# Altium schematic symbol library arduino.SchLib: 2 symbols
Pins are listed as number, name and electrical type; pins without a type are passive.

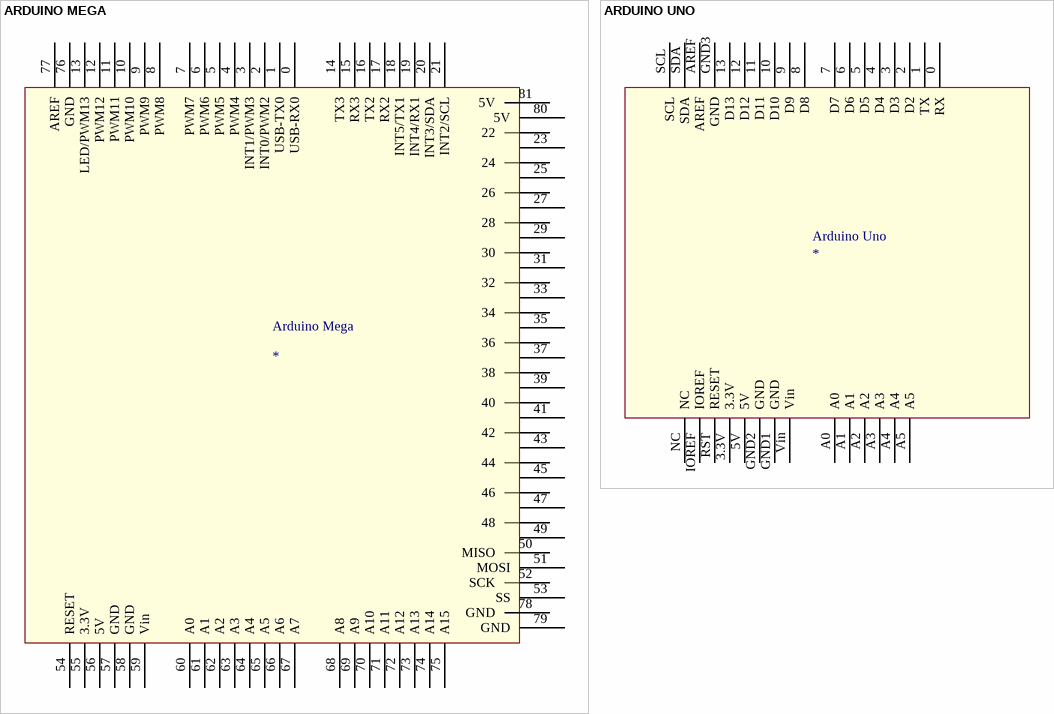
[diagram p0: symbols ARDUINO MEGA to ARDUINO UNO]

## ARDUINO MEGA
designator Arduino Mega
footprint ARDUINO MEGA (Arduino Mega 2560)
pins: 0 USB-RX0, 1 USB-TX0, 2 INT0/PWM2, 3 INT1/PWM3, 4 PWM4, 5 PWM5, 6 PWM6, 7 PWM7, 8 PWM8, 9 PWM9, 10 PWM10, 11 PWM11, 12 PWM12, 13 LED/PWM13, 14 TX3, 15 RX3, 16 TX2, 17 RX2, 18 INT5/TX1, 19 INT4/RX1, 20 INT3/SDA, 21 INT2/SCL, 22, 23, 24, 25, 26, 27, 28, 29, 30, 31, 32, 33, 34, 35, 36, 37, 38, 39, 40, 41, 42, 43, 44, 45, 46, 47, 48, 49, 50 MISO, 51 MOSI, 52 SCK, 53 SS, 54 RESET, 55 3.3V, 56 5V, 57 GND, 58 GND, 59 Vin, 60 A0, 61 A1, 62 A2, 63 A3, 64 A4, 65 A5, 66 A6, 67 A7, 68 A8, 69 A9, 70 A10, 71 A11, 72 A12, 73 A13, 74 A14, 75 A15, 76 GND, 77 AREF, 78 GND, 79 GND, 80 5V, 81 5V

## ARDUINO UNO
designator Arduino Uno
footprint ARDUINO UNO
footprint Arduino Uno
pins: 0 RX, 1 TX, 2 D2, 3 D3, 3.3V, 4 D4, 5 D5, 5V, 6 D6, 7 D7, 8 D8, 9 D9, 10 D10, 11 D11, 12 D12, 13 D13, A0, A1, A2, A3, A4, A5, AREF, GND1 GND, GND2 GND, GND3 GND, IOREF, NC, RST RESET, SCL, SDA, Vin